# Altium schematic symbol library Diodes.SchLib: 22 symbols
Pins are listed as number, name and electrical type; pins without a type are passive.

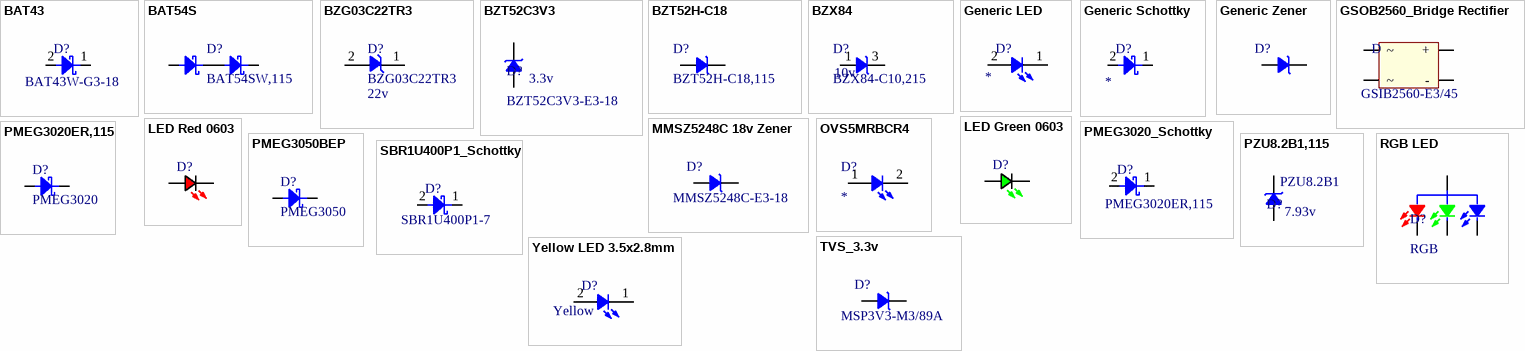
[diagram p0: symbols BAT43 to Yellow LED 3.5x2.8mm]

## BAT43
designator D?, comment BAT43W-G3-18
MFG: Vishay; Value: *; MFG_PN: BAT43W-G3-18
footprint SOD-123 (SM DIODE; 2 Flat Leads)
pins: 1 K, 2 A

## BAT54S
designator D?, comment BAT54SW,115
Series connected dual Schottky diode; MFG: NXP; CONFIG: SERIES DUAL; REV_VOLTAGE: 30v; MFG_PN: BAT54SW,115
footprint SOT-323
pins: 1 A, 2 A, 3 AK

## BZG03C22TR3
designator D?  ZENER_VOLTAGE: 22v
22v Zener_3W; MFG: VISHAY; POWER: 3W; AEC_QUALIFIED: YES; MFG_PN: BZG03C22TR3
pins: 1 K, 2 A

## BZT52C3V3
designator D?, comment BZT52C3V3-E3-18  OPER_VOLTAGE: 3.3v
Zener, 3.3v, Low Leakage; MFG: VISHAY; REV_LEAKAGE: 100nA; MFG_PN: BZT52C3V3-E3-18
footprint SOD-123 (SM DIODE; 2 Flat Leads)
pins: 1 K, 2 A

## BZT52H-C18
designator D?, comment BZT52H-C18,115
19.1v Zener Diode; MFG: NXP; OPER_VOLTAGE: 19.1; LOAD: NL; CURRENT: 250mA; MFG_PN: BZT52H-C18,115
footprint SOD-123 (SM DIODE; 2 Flat Leads)
pins: 1 K, 2 A

## BZX84
designator D?, comment BZX84-C10,215  Zener Voltage: 10v
MFG: Diodes Inc; MFG_PN: BZX84-C10,215
footprint SOT23-3M
pins: 1 K, 2 hidden, 3 A

## Generic LED
designator D?
MFG: *; Value: *; MFG_PN: *; Color: *
pins: 1 K, 2 A

## Generic Schottky
designator D?
MFG: *; Value: *; MFG_PN: *
pins: 1 K, 2 A

## Generic Zener
designator D?
pins: 1 K, 2 A

## GSOB2560_Bridge Rectifier
designator D, comment MFG_PN: GSIB2560-E3/45  (hidden comment: Bridge Rectifier)
MFG: Vishay
footprint GSIB-5S (Bridge Rectifier)
pins: 1 +, 2 ~, 3 ~, 4 -

## LED Green 0603
designator D?, comment LTST-S270KGKT  (value not drawn)
MFG: Lite On; VFORWARD: 2v; CURRENT: 20mA; COLOR: Green; MFG_PN: LTST-S270KGKT
footprint LED Green 0603
pins: 1 K, 2 A

## LED Red 0603
designator D?, comment VLMS1300-GS08  (value not drawn)
MFG: Vishay; VFORWARD: 2V; CURRENT: 20mA; COLOR: Red; MFG_PN: VLMS1300-GS08
footprint LED Red 0603
pins: 1 K, 2 A

## MMSZ5248C 18v Zener
designator D?, comment MMSZ5248C-E3-18
18v 0.5W Zener Diode; MFG: VISHAY; OPER_VOLTAGE: 18v; POWER: 0.5W; MFG_PN: MMSZ5248C-E3-18
footprint SOD-123 (SM DIODE; 2 Flat Leads)
pins: 1 K, 2 A

## OVS5MRBCR4
designator D?
High Power Red LED; MFG: TT ELECTRONICS; MFG_PN: OVS5MRBCR4; VIEW_ANGLE: 120deg; CURRENT: 200mA; LUM_FLUX: 7150mcd; POWER: 330mW; COLOR: RED
footprint OSV5MxBCR4 (High Power Red LED)
pins: 1 K, 2 A

## PMEG3020_Schottky
designator D?, comment PMEG3020ER,115
MFG: NXP; Value: *; MFG_PN: PMEG3020ER,115
footprint SOD-123 (SM DIODE; 2 Flat Leads)
pins: 1 K, 2 A

## PMEG3020ER,115
designator D?, comment PMEG3020
Schottky Diode - 2A; MFG: NXP; VF: 365mV; MFG_PN: PMEG3020ER,115; LOAD: NL; Value: *; CURRENT: 2A
footprint SOD-123 (SM DIODE; 2 Flat Leads)
pins: 1 K, 2 A

## PMEG3050BEP
designator D?, comment PMEG3050
MFG: NXP; CURRENT: 5A; VF: 0.45v; MFG_PN: PMEG3050BEP,115; Value: *
footprint SOD128
pins: 1 K, 2 A

## PZU8.2B1,115
designator D?, comment OPER_VOLTAGE: 7.93v  (hidden comment: PZU8.2B1)
7.93v Zener Diode; MFG: NXP; REV_LEAKAGE: 500uA; MFG_PN: PZU8.2B1
footprint SOD-323 (SC-90)
pins: 1 K, 2 A

## RGB LED
designator D?, comment RGB
MFG: LUMEX; MFG_PN: SML-LX2835SISUGUBC; VOLTAGE_RED: 2.35V; VOLTAGE_BLUE: 3.65; CURRENT_RED: 60mA; CURRENT_BLUE: 100mA; VOLTAGE_GREEN: 2.35v; CURRENT_GREEN: 60mA
footprint SMD-4 (RGB LED Package)
pins: 1 R, 2 Anode, 3 B, 4 G

## SBR1U400P1_Schottky
designator D?, comment SBR1U400P1-7
MFG: Diodes Inc; Value: *; MFG_PN: SBR1U400P1-7
footprint PowerDI123
pins: 1 K, 2 A

## TVS_3.3v
designator D?, comment MSP3V3-M3/89A
MFG: Vishay; OPER_VOLTAGE: 3.3v; MFG_PN: MSP3V3-M3/89A
footprint MicroSMP
pins: 1 K, 2 A

## Yellow LED 3.5x2.8mm
designator D?, comment Color: Yellow  (hidden comment: AA3528YS)
MFG: Kingbright; CURRENT: 50mA; VOLTAGE: 2.1v; MFG_PN: AA3528YS
footprint LED_PLCC2 (3.2mm x 2.8mm Kingbright LED)
pins: 1 K, 2 A